# EAGLE library part W972GG6JB (library blinkinlabs)
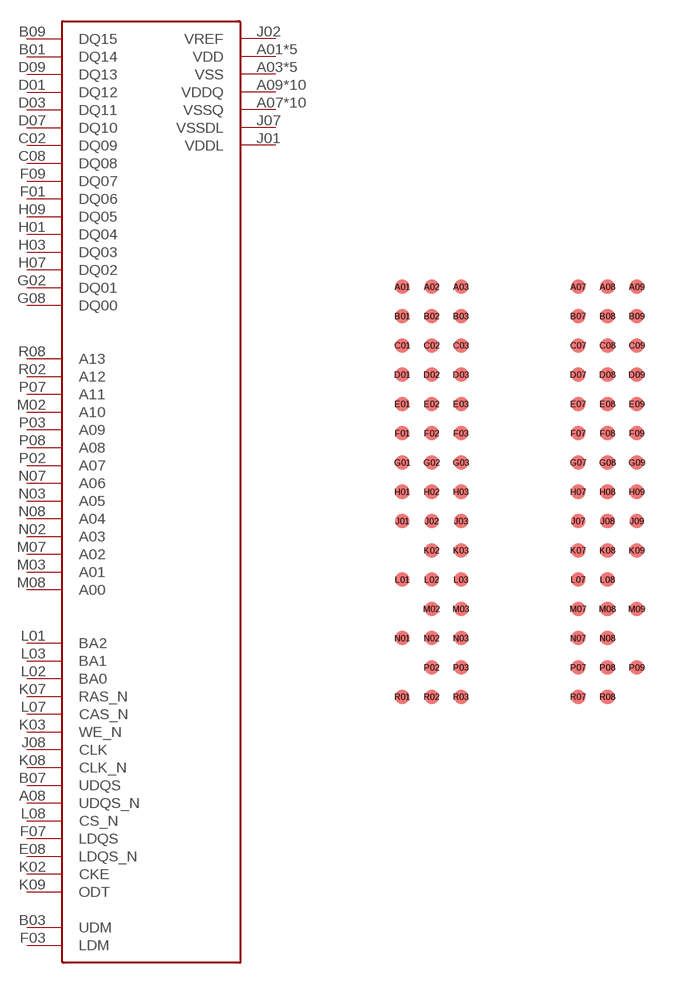
[diagram p24: symbol with the pads of DDR2_WBGA-84; footprint DDR2_WBGA-84]

Designator prefix -

## W972GG6JB  [DDR2_WBGA-84]
A01  VDD
A03  VSS
A07  VSSQ
A08  UDQS_N
A09  VDDQ
B01  DQ14
B02  VSSQ
B03  UDM
B07  UDQS
B08  VSSQ
B09  DQ15
C01  VDDQ
C02  DQ09
C03  VDDQ
C07  VDDQ
C08  DQ08
C09  VDDQ
D01  DQ12
D02  VSSQ
D03  DQ11
D07  DQ10
D08  VSSQ
D09  DQ13
E01  VDD
E03  VSS
E07  VSSQ
E08  LDQS_N
E09  VDDQ
F01  DQ06
F02  VSSQ
F03  LDM
F07  LDQS
F08  VSSQ
F09  DQ07
G01  VDDQ
G02  DQ01
G03  VDDQ
G07  VDDQ
G08  DQ00
G09  VDDQ
H01  DQ04
H02  VSSQ
H03  DQ03
H07  DQ02
H08  VSSQ
H09  DQ05
J01  VDDL
J02  VREF
J03  VSS
J07  VSSDL
J08  CLK
J09  VDD
K02  CKE
K03  WE_N
K07  RAS_N
K08  CLK_N
K09  ODT
L01  BA2
L02  BA0
L03  BA1
L07  CAS_N
L08  CS_N
M02  A10
M03  A01
M07  A02
M08  A00
M09  VDD
N01  VSS
N02  A03
N03  A05
N07  A06
N08  A04
P02  A07
P03  A09
P07  A11
P08  A08
P09  VSS
R01  VDD
R02  A12
R08  A13

## Footprint DDR2_WBGA-84 (pad centres in mm)
smd 0.4 x 0.4: A01 0,0; A02 0.8,0; A03 1.6,0; A07 4.8,0; A08 5.6,0; A09 6.4,0; B01 0,-0.8; B02 0.8,-0.8; B03 1.6,-0.8; B07 4.8,-0.8; B08 5.6,-0.8; B09 6.4,-0.8; C01 0,-1.6; C02 0.8,-1.6; C03 1.6,-1.6; C07 4.8,-1.6; C08 5.6,-1.6; C09 6.4,-1.6; D01 0,-2.4; D02 0.8,-2.4; D03 1.6,-2.4; D07 4.8,-2.4; D08 5.6,-2.4; D09 6.4,-2.4; E01 0,-3.2; E02 0.8,-3.2; E03 1.6,-3.2; E07 4.8,-3.2; E08 5.6,-3.2; E09 6.4,-3.2; F01 0,-4; F02 0.8,-4; F03 1.6,-4; F07 4.8,-4; F08 5.6,-4; F09 6.4,-4; G01 0,-4.8; G02 0.8,-4.8; G03 1.6,-4.8; G07 4.8,-4.8; G08 5.6,-4.8; G09 6.4,-4.8; H01 0,-5.6; H02 0.8,-5.6; H03 1.6,-5.6; H07 4.8,-5.6; H08 5.6,-5.6; H09 6.4,-5.6; J01 0,-6.4; J02 0.8,-6.4; J03 1.6,-6.4; J07 4.8,-6.4; J08 5.6,-6.4; J09 6.4,-6.4; K02 0.8,-7.2; K03 1.6,-7.2; K07 4.8,-7.2; K08 5.6,-7.2; K09 6.4,-7.2; L01 0,-8; L02 0.8,-8; L03 1.6,-8; L07 4.8,-8; L08 5.6,-8; M02 0.8,-8.8; M03 1.6,-8.8; M07 4.8,-8.8; M08 5.6,-8.8; M09 6.4,-8.8; N01 0,-9.6; N02 0.8,-9.6; N03 1.6,-9.6; N07 4.8,-9.6; N08 5.6,-9.6; P02 0.8,-10.4; P03 1.6,-10.4; P07 4.8,-10.4; P08 5.6,-10.4; P09 6.4,-10.4; R01 0,-11.2; R02 0.8,-11.2; R03 1.6,-11.2; R07 4.8,-11.2; R08 5.6,-11.2